# Altium footprint library CapTantalum.PcbLib: 46 footprints (part 1 of 3)
Each footprint in its own frame and in the unit in brackets; x right, y up, seen from the top. Pads: shape width x height; smd on the part's side, far side on the other; paste and mask are expansions set on the pad; w line width, h text height; cw(c..) or ccw(c..) is an arc to the next point about the centre after c.
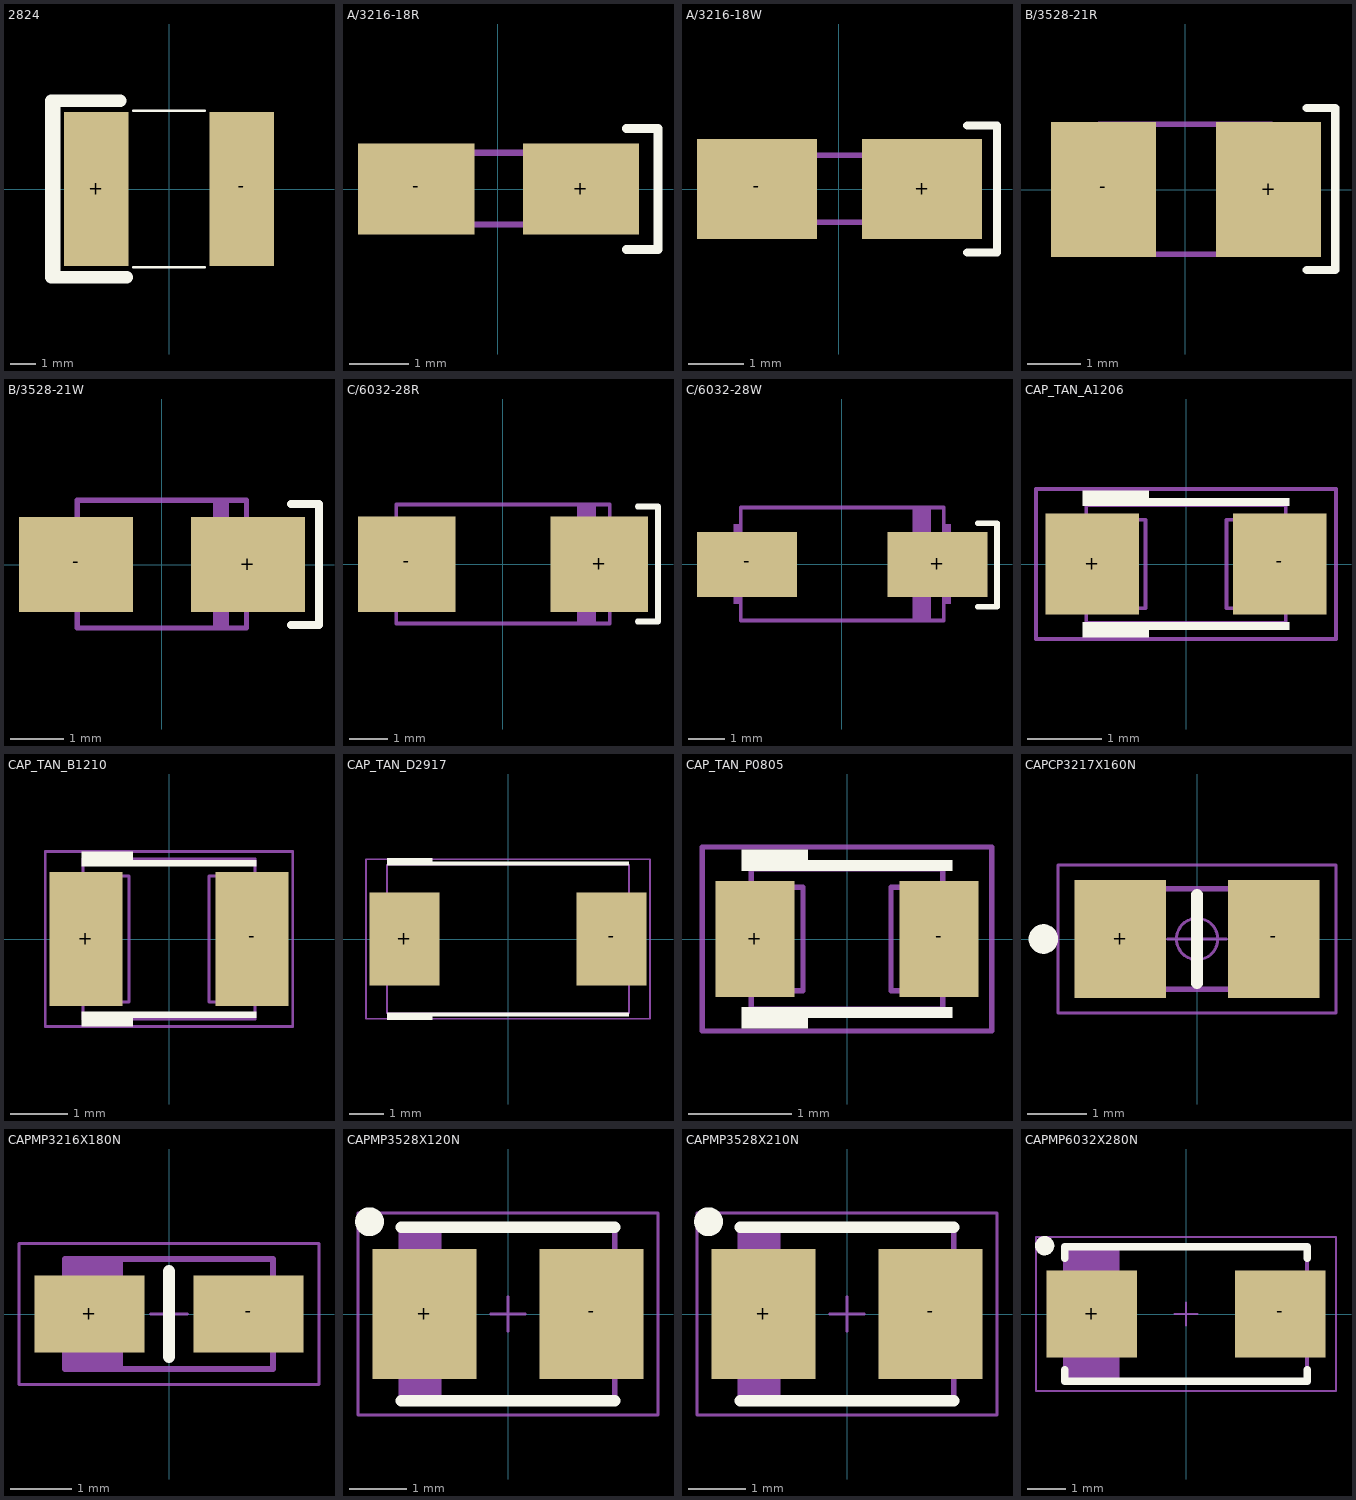
[diagram p0: the footprints below, top view; thin cyan lines are the x and y axes]

## 2824 [mm]
pads (2):
  rect 2.5x6 smd: +(-2.831,0) -(2.831,0)
Top Overlay:
  lines w0.1: -1.397,-3.048 1.397,-3.048 ; -1.397,3.048 1.397,3.048
  lines w0.2: -4.318,-3.175 -4.318,3.175
  lines w0.5: -1.905,3.429 -4.572,3.429 -4.572,-3.429 -1.651,-3.429
3D body "User Library-Cap Size R.STEP": height 3.47, standoff 0.01, extent -3.631,-2.984 3.557,2.985

## A/3216-18R [mil]
pads (2):
  rect 77x60 smd: +(55,0) -(-54.13,0)
Top Overlay:
  lines w6: 85,-40 106,-40 106,40 85,40
Mechanical 16:
  rectangle: -62.99,-23.62 -58.07,24
  rectangle: 59,-23.62 63,24
  rectangle: 32,-24.61 44,25
  lines w4: -57.09,-23.62 58,-23.62 58,24 -57.09,24 -57.09,-23.62
3D body "TantalC_SizeA_EIA-3216_Reflow.step": height 70.87, standoff 0, extent -66.92,-35.43 66.93,35.44

## A/3216-18W [mil]
pads (2):
  rect 85x71 smd: +(59,0) -(-58.07,0)
Top Overlay:
  lines w6: 91,-45 112,-45 112,45 91,45
Mechanical 16:
  rectangle: 32,-24.61 44,25
  rectangle: 59,-23.62 63,24
  rectangle: -62.99,-23.62 -58.07,24
  lines w4: -57.09,-23.62 -57.09,24 58,24 58,-23.62 -57.09,-23.62
3D body "TantalC_SizeA_EIA-3216_Wave.step": height 70.87, standoff 0, extent -66.92,-35.43 66.94,35.44

## B/3528-21R [mil]
pads (2):
  rect 77x99 smd: +(61,0) -(-60.04,0)
Top Overlay:
  lines w6: 89,-59 110,-59 110,60 89,60
Mechanical 16:
  rectangle: -68.9,-23.62 -63.98,24
  rectangle: 64,-23.62 69,24
  rectangle: 38,-48.23 50,49
  lines w4: -62.99,-47.24 63,-47.24 63,48 -62.99,48 -62.99,-47.24
3D body "TantalC_SizeB_EIA-3528_Reflow.step": height 82.68, standoff 0, extent -71.83,-59.05 73.84,59.06

## B/3528-21W [mil]
pads (2):
  rect 85x71 smd: +(64,0) -(-63.98,0)
Top Overlay:
  lines w6: 96,-45 117,-45 117,45 96,45
Mechanical 16:
  rectangle: 38,-48.23 50,49
  rectangle: 64,-23.62 69,24
  rectangle: -68.9,-23.62 -63.98,24
  lines w4: -62.99,-47.24 -62.99,48 63,48 63,-47.24 -62.99,-47.24
3D body "TantalC_SizeB_EIA-3528_Wave.step": height 82.68, standoff 0, extent -72.83,-60.05 72.84,58.06

## C/6032-28R [mil]
pads (2):
  rect 101x99 smd: +(100,0) -(-99.41,0)
Top Overlay:
  lines w6: 140,-59 161,-59 161,60 140,60
Mechanical 16:
  rectangle: -118.11,-43.31 -112.2,44
  rectangle: 113,-43.31 119,44
  rectangle: 77,-62.01 97,63
  lines w4: -110.24,-61.02 111,-61.02 111,62 -110.24,62 -110.24,-61.02
3D body "TantalC_SizeC_EIA-6032_Reflow.step": height 110.24, standoff 0, extent -124.01,-68.89 124.02,68.9

## C/6032-28W [mil]
pads (2):
  rect 109x71 smd: +(104,0) -(-103.35,0)
Top Overlay:
  lines w6: 148,-46 169,-46 169,45 148,45
Mechanical 16:
  rectangle: 77,-62.01 97,63
  rectangle: 113,-43.31 119,44
  rectangle: -118.11,-43.31 -112.2,44
  lines w4: -110.24,-61.02 -110.24,62 111,62 111,-61.02 -110.24,-61.02
3D body "TantalC_SizeC_EIA-6032_Wave.step": height 110.24, standoff 0, extent -124.01,-68.89 124.02,68.9

## CAP_TAN_A1206 [mil]
height 70.87
pads (2):
  rect 50x54 smd: +(-50,0) -(50,0)
Top Overlay:
  region: 55,-35 -20,-35 -20,-39 -55,-39 -55,-31 55,-31
  region: 55,31 -55,31 -55,39 -20,39 -20,35 55,35
Mechanical 13:
  lines w2: -63,-23.63 -63,23.62 -21.66,23.62 -21.66,-23.63 -63,-23.63 ; -53.16,-31.5 53.15,-31.5 53.15,31.5 -53.16,31.5 -53.16,-31.5 ; 21.65,-23.62 21.65,23.62 62.99,23.62 62.99,-23.62 21.65,-23.62
Mechanical 14:
  lines w2: -80,-40 80,-40 80,40 -80,40 -80,-40
3D body "CAPMP3216X180N.STEP": height 70.87, standoff 0, extent -62.99,-31.49 63,31.5

## CAP_TAN_B1210 [mil]
height 82.68
pads (2):
  rect 50x92 smd: +(-57,0) -(57,0)
Top Overlay:
  region: 60,-54 -25,-54 -25,-60 -60,-60 -60,-50 60,-50
  region: 60,50 -60,50 -60,60 -25,60 -25,54 60,54
Mechanical 13:
  lines w2: -68.89,-43.3 -68.89,43.31 -27.55,43.31 -27.55,-43.3 -68.89,-43.3 ; -59.06,-55.11 59.05,-55.11 59.05,55.12 -59.06,55.12 -59.06,-55.11 ; 27.56,-43.31 68.9,-43.31 68.9,43.31 27.56,43.31 27.56,-43.31
Mechanical 14:
  lines w2: -85,-60 -85,60 85,60 85,-60 -85,-60
3D body "CAPMP3528X210N.STEP": height 82.68, standoff 0, extent -68.89,-55.11 68.91,55.13

## CAP_TAN_D2917 [mil]
height 122.05
pads (2):
  rect 80x106 smd: +(-118,0) -(118,0)
Top Overlay:
  region: 137.8,-88 -86.61,-88 -86.61,-92 -137.8,-92 -137.8,-84 137.8,-84
  region: 137.8,84 -137.8,84 -137.8,92 -86.61,92 -86.61,88 137.8,88
Mechanical 13:
  lines w2: -143.7,-47.24 -143.7,47.24 -86.61,47.24 -86.61,-47.24 -143.7,-47.24 ; -137.8,-84.65 137.8,-84.65 137.8,84.65 -137.8,84.65 -137.8,-84.65 ; 86.61,-47.24 143.7,-47.24 143.7,47.24 86.61,47.24 86.61,-47.24
Mechanical 14:
  lines w2: -162,-91 162,-91 162,91 -162,91 -162,-91
3D body "CAPMP7343X310N.STEP": height 122.05, standoff 0, extent -149.6,-77.75 149.61,77.76

## CAP_TAN_P0805 [mil]
height 59.06
pads (2):
  rect 30x44 smd: +(-35,0) -(35,0)
Top Overlay:
  region: 40,-30 -15,-30 -15,-34 -40,-34 -40,-26 40,-26
  region: 40,26 -40,26 -40,34 -15,34 -15,30 40,30
Mechanical 13:
  lines w2: -40.35,-19.68 -40.35,19.68 -16.73,19.68 -16.73,-19.68 -40.35,-19.68 ; -36.42,-26.57 36.42,-26.57 36.42,26.57 -36.42,26.57 -36.42,-26.57 ; 16.73,-19.68 16.73,19.68 40.35,19.68 40.35,-19.68 16.73,-19.68
Mechanical 14:
  lines w2: -55,-35 -55,35 55,35 55,-35 -55,-35
3D body "CAPMP2012X150N.STEP": height 59.06, standoff 0, extent -40.35,-26.57 40.36,26.58

## CAPCP3217X160N [mm] "Chip Capacitor, Polarized, Body 3.2x1.6mm, IPC Medium Density"
height 1.6
pads (2):
  rect 1.55x2 smd: +(-1.3,0) -(1.3,0)
Top Overlay:
  circle w0.25: c-2.6,0 r0.125
  lines w0.2: 0,-0.75 0,0.75
Mechanical 14:
  lines w0.1: -1.5,-0.85 -1.5,0.85 ; -1.4,-0.85 -1.4,0.85 ; -1.3,-0.85 -1.3,0.85 ; -1.2,-0.85 -1.2,0.85 ; -1.1,-0.85 -1.1,0.85 ; -1,-0.85 -1,0.85 ; -0.9,-0.85 -0.9,0.85 ; -1.6,-0.85 1.6,-0.85 1.6,0.85 -1.6,0.85 ; -1.6,-0.85 -1.6,0.85 ; -1.6,-0.85 -1.6,0.85
Mechanical 15:
  circle w0.05: c0,0 r0.35
  lines w0.05: -0.5,0 0.5,0 ; 0,-0.5 0,0.5 ; -2.35,-1.25 2.35,-1.25 2.35,1.25 -2.35,1.25 -2.35,-1.25
3D body "CAPCP3217X160N.stp": height 1.6, standoff 0, extent -1.7,-1 1.5,1

## CAPMP3216X180N [mm] "Capacitor, Polarized, Molded  Body 3.2x1.6mm, IPC Medium Density"
height 1.8
pads (2):
  rect 1.8x1.25 smd: +(-1.3,0) -(1.3,0)
Top Overlay:
  lines w0.2: 0,-0.7 0,0.7
Mechanical 14:
  lines w0.1: -1.625,-0.9 -1.625,0.9 ; -1.55,-0.9 -1.55,0.9 ; -1.475,-0.9 -1.475,0.9 ; -1.4,-0.9 -1.4,0.9 ; -1.325,-0.9 -1.325,0.9 ; -1.25,-0.9 -1.25,0.9 ; -1.175,-0.9 -1.175,0.9 ; -1.1,-0.9 -1.1,0.9 ; -1.025,-0.9 -1.025,0.9 ; -0.95,-0.9 -0.95,0.9 ; -0.875,-0.9 -0.875,0.9 ; -1.7,-0.9 -1.7,0.9 1.7,0.9 1.7,-0.9 -1.7,-0.9 ; -0.8,-0.9 -0.8,0.9 -0.8,-0.9
Mechanical 15:
  lines w0.05: -0.3,0 0.3,0 ; 0,-0.3 0,0.3 ; -2.45,-1.15 2.45,-1.15 2.45,1.15 -2.45,1.15 -2.45,-1.15
3D body "CAPMP3216X180N.stp": height 1.6, standoff 0, extent -1.7,-0.9 1.7,0.9

## CAPMP3528X120N [mm] "Capacitor, Polarized, Molded  Body 3.5x2.8mm, IPC Medium Density"
height 1.2
pads (2):
  rect 1.8x2.25 smd: +(-1.45,0) -(1.45,0)
Top Overlay:
  circle w0.25: c-2.4,1.6 r0.125
  lines w0.2: -1.85,-1.5 1.85,-1.5 ; -1.85,1.5 1.85,1.5
Mechanical 14:
  lines w0.1: -1.8,-1.5 -1.8,1.5 ; -1.725,-1.5 -1.725,1.5 ; -1.65,-1.5 -1.65,1.5 ; -1.575,-1.5 -1.575,1.5 ; -1.5,-1.5 -1.5,1.5 ; -1.425,-1.5 -1.425,1.5 ; -1.35,-1.5 -1.35,1.5 ; -1.275,-1.5 -1.275,1.5 ; -1.2,-1.5 -1.2,1.5 ; -1.85,-1.5 -1.85,1.5 1.85,1.5 1.85,-1.5 -1.85,-1.5
Mechanical 15:
  lines w0.05: -0.3,0 0.3,0 ; 0,-0.3 0,0.3 ; -2.6,-1.75 2.6,-1.75 2.6,1.75 -2.6,1.75 -2.6,-1.75
3D body "CAPMP3528X120N.stp": height 1.2, standoff 0, extent -1.85,-1.5 1.85,1.5

## CAPMP3528X210N [mm] "Capacitor, Polarized, Molded  Body 3.5x2.8mm, IPC Medium Density"
height 2.1
pads (2):
  rect 1.8x2.25 smd: +(-1.45,0) -(1.45,0)
Top Overlay:
  circle w0.25: c-2.4,1.6 r0.125
  lines w0.2: -1.85,-1.5 1.85,-1.5 ; -1.85,1.5 1.85,1.5
Mechanical 14:
  lines w0.1: -1.8,-1.5 -1.8,1.5 ; -1.725,-1.5 -1.725,1.5 ; -1.65,-1.5 -1.65,1.5 ; -1.575,-1.5 -1.575,1.5 ; -1.5,-1.5 -1.5,1.5 ; -1.425,-1.5 -1.425,1.5 ; -1.35,-1.5 -1.35,1.5 ; -1.275,-1.5 -1.275,1.5 ; -1.2,-1.5 -1.2,1.5 ; -1.85,-1.5 -1.85,1.5 1.85,1.5 1.85,-1.5 -1.85,-1.5
Mechanical 15:
  lines w0.05: -0.3,0 0.3,0 ; 0,-0.3 0,0.3 ; -2.6,-1.75 2.6,-1.75 2.6,1.75 -2.6,1.75 -2.6,-1.75
3D body "CAPMP3528X210N.stp": height 2.1, standoff 0, extent -1.85,-1.5 1.85,1.5

## CAPMP6032X280N [mm] "Capacitor, Polarized, Molded  Body 6.0x3.2mm, IPC Medium Density"
height 2.8
pads (2):
  rect 2.35x2.25 smd: +(-2.45,0) -(2.45,0)
Top Overlay:
  circle w0.25: c-3.675,1.775 r0.125
  lines w0.2: -3.15,-1.45 -3.15,-1.75 3.15,-1.75 3.15,-1.45 ; -3.15,1.45 -3.15,1.75 3.15,1.75 3.15,1.45
Mechanical 14:
  lines w0.1: -3.05,-1.725 -3.05,1.75 ; -2.975,-1.725 -2.975,1.75 ; -2.9,-1.725 -2.9,1.75 ; -2.825,-1.725 -2.825,1.75 ; -2.75,-1.725 -2.75,1.75 ; -2.675,-1.725 -2.675,1.75 ; -2.6,-1.725 -2.6,1.75 ; -2.525,-1.725 -2.525,1.75 ; -2.45,-1.725 -2.45,1.75 ; -2.375,-1.725 -2.375,1.75 ; -2.3,-1.725 -2.3,1.75 ; -2.225,-1.725 -2.225,1.75 ; -2.15,-1.725 -2.15,1.75 ; -2.075,-1.725 -2.075,1.75 ; -2,-1.725 -2,1.75 ; -1.925,-1.725 -1.925,1.75 ; -1.85,-1.725 -1.85,1.75 ; -1.775,-1.725 -1.775,1.75 ; -3.15,-1.725 -3.15,1.75 3.15,1.75 3.15,-1.725 -3.15,-1.725
Mechanical 15:
  lines w0.05: -0.3,0 0.3,0 ; 0,-0.3 0,0.3 ; -3.9,-2 -3.9,2 3.9,2 3.9,-2 -3.9,-2
3D body "CAPMP6032X280N.stp": height 2.8, standoff 0, extent -3.15,-1.75 3.15,1.75